# Altium integrated library Teensy Footprints.IntLib: 1 symbol
Pins are listed as number, name and electrical type; pins without a type are passive.

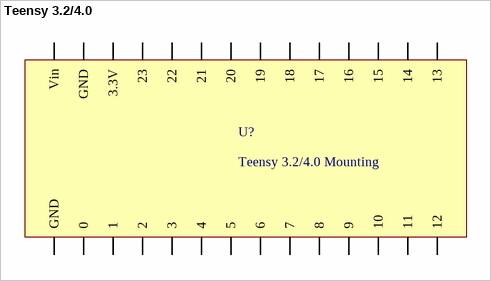
[diagram p0: symbol Teensy 3.2/4.0]

## Teensy 3.2/4.0
designator U?, comment Teensy 3.2/4.0 Mounting
footprint Teensy 3.2-4.0
pins: 0, 1, 2, 3, 3.3V, 4, 5, 6, 7, 8, 9, 10, 11, 12, 13, 14, 15, 16, 17, 18, 19, 20, 21, 22, 23, GND, GND2 GND, Vin